# EAGLE library part SIL9 (library milador)
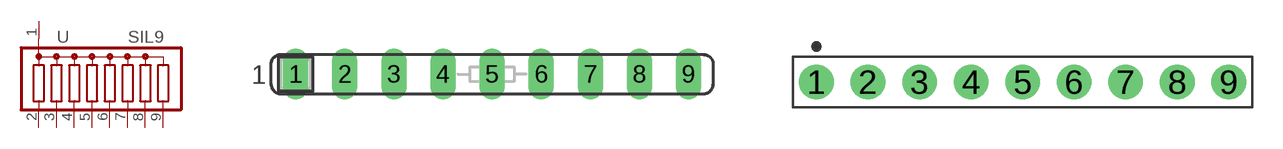
[diagram p1: symbol with the pads of SIL9; footprints SIL9, CONN_1X9]

Designator prefix -

## SIL9  [SIL9]
1  1  pas
2  2  pas
3  3  pas
4  4  pas
5  5  pas
6  6  pas
7  7  pas
8  8  pas
9  9  pas

## SIL9WITH3DMODEL  [CONN_1X9]
Pads as for SIL9

## Footprint SIL9 (pad centres in mm)
Single In Line
drill 0.813 long: 1 -10.16,0; 2 -7.62,0; 3 -5.08,0; 4 -2.54,0; 5 0,0; 6 2.54,0; 7 5.08,0; 8 7.62,0; 9 10.16,0

## Footprint CONN_1X9 (pad centres in mm)
Single-row, 9-pin Pin Header (Male) Straight, 2.54 mm (0.10 in) col pitch, 5.84 mm mating length, 22.61 X 2.49 X 8.38 mm body Single-row (1X9), 9-pin Pin Header (Male) Straight package with 2.54 mm (0.10 in) col pitch, 0.64 mm lead width, 3.00 mm tail length and 5.84 mm mating length with overall size 22.61 X 2.49 X 8.38 mm, pin pattern - clockwise from top left
drill 1.105 pad 1.705: 1 0,0; 2 2.54,0; 3 5.08,0; 4 7.62,0; 5 10.16,0; 6 12.7,0; 7 15.24,0; 8 17.78,0; 9 20.32,0